# EAGLE library part 52745-2790 (library sibosop-con-molex)
FFC/FPC-to-Board 0.50mm (.020") SMT Top Contact Right Angle, ZIF, Style Receptacle 52745 / 52435 Source: http://www.molex.com/product/ffc/52745.html
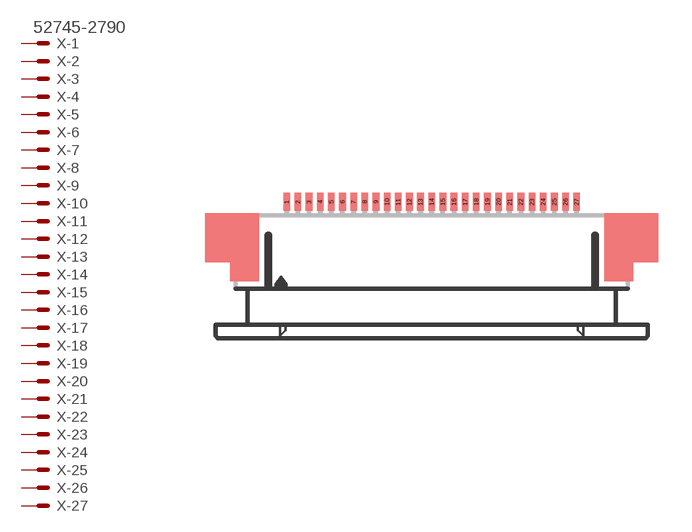
[diagram p109: symbol with the pads of 52745-2790; footprint 52745-2790]

Designator prefix X; gates -1=MV -2=M -3=M -4=M -5=M -6=M -7=M -8=M -9=M -10=M -11=M -12=M -13=M -14=M -15=M -16=M -17=M -18=M -19=M -20=M -21=M -22=M -23=M -24=M -25=M -26=M -27=M

## 52745-2790  [52745-2790]
1  -1:S  pas
2  -2:S  pas
3  -3:S  pas
4  -4:S  pas
5  -5:S  pas
6  -6:S  pas
7  -7:S  pas
8  -8:S  pas
9  -9:S  pas
10  -10:S  pas
11  -11:S  pas
12  -12:S  pas
13  -13:S  pas
14  -14:S  pas
15  -15:S  pas
16  -16:S  pas
17  -17:S  pas
18  -18:S  pas
19  -19:S  pas
20  -20:S  pas
21  -21:S  pas
22  -22:S  pas
23  -23:S  pas
24  -24:S  pas
25  -25:S  pas
26  -26:S  pas
27  -27:S  pas

## Footprint 52745-2790 (pad centres in mm)
FFC/FPC-to-Board 0.50mm (.020") SMT Top Contact Right Angle, ZIF, Style Receptacle 52745 / 52435 Source: http://www.molex.com/product/ffc/52745.html
smd 0.3 x 0.8: 1 -6.5,2.5; 2 -6,2.5; 3 -5.5,2.5; 4 -5,2.5; 5 -4.5,2.5; 6 -4,2.5; 7 -3.5,2.5; 8 -3,2.5; 9 -2.5,2.5; 10 -2,2.5; 11 -1.5,2.5; 12 -1,2.5; 13 -0.5,2.5; 14 0,2.5; 15 0.5,2.5; 16 1,2.5; 17 1.5,2.5; 18 2,2.5; 19 2.5,2.5; 20 3,2.5; 21 3.5,2.5; 22 4,2.5; 23 4.5,2.5; 24 5,2.5; 25 5.5,2.5; 26 6,2.5; 27 6.5,2.5